# Altium schematic symbol library LED_Morph.SCHLIB: 12 symbols
Pins are listed as number, name and electrical type; pins without a type are passive.

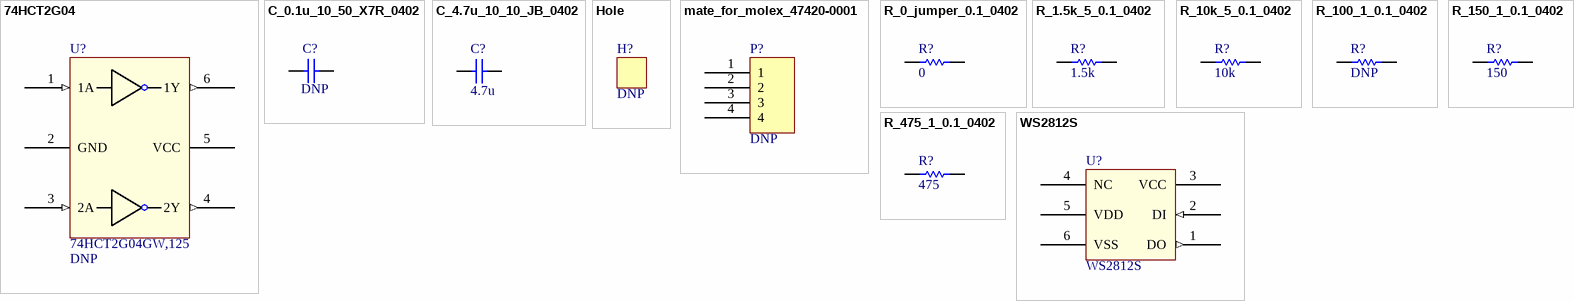
[diagram p0: symbols 74HCT2G04 to WS2812S]

## 74HCT2G04
designator U?, comment DNP  PN: 74HCT2G04GW,125
Dual inverter The 74HC2G04; 74HCT2G04 is a high-speed Si-gate CMOS device.; Vendor: NXP Semiconductors
footprint SOT65P210X110-6N (SOT23, 6-Leads, Body 2.00x2.10mm, Pitch 0.65mm, IPC Medium Density)
pins: 1 1A (in), 2 GND (power), 3 2A (in), 4 2Y (out), 5 VCC (power), 6 1Y (out)

## C_0.1u_10_50_X7R_0402
designator C?, comment DNP
CAP CER 0.1UF 50V 10% X7R 0402; Value: 0.1u; Vendor: Murata; PN: GRM155R71H104KE14D; Hello_PN: 225-00462; Size: 0402; Tolerance: 10%; Voltage: 50V; Temp: X7R
footprint CAP0402_SENSE_DVT (Chip Capacitor, 2-Leads)
pins: 1, 2

## C_4.7u_10_10_JB_0402
designator C?, comment 4.7u
CAP CER 4.7UF 10V 10% JB 0402; Vendor: Samsung; PN: CL05A475KP5NRNC; Hello_PN: 225-00461; Value: 4.7u; Size: 0402; Tolerance: 10%; Voltage: 10V; Temp: JB
footprint CAP0402_SENSE_DVT (Chip Capacitor, 2-Leads)
pins: 1, 2

## Hole
designator H?, comment DNP
general purpose hole
footprint HOLE_ROUND_0.6mm
footprint HOLE_ROUND_1.6mm
footprint HOLE_ROUND_1.7mm
footprint HOLE_ROUND_2.4mm
footprint HOLE_ROUND_3.1mm
footprint HOLE_ROUND_2.1mm
footprint HOLE_ROUND_1.8mm
footprint HOLE_ROUND_1.4mm

## mate_for_molex_47420-0001
designator P?, comment DNP
Molex 4-pin spring connector 1.8 mm working height
footprint mate_for_molex_47420-0001 (Molex 4-pin connector pads)
pins: 1, 2, 3, 4

## R_0_jumper_0.1_0402
designator R?, comment 0
RES 0.0 OHM 1/10W JUMP 0402 SMD; Vendor: Yageo; Tolerance: Jumper; Power: 0.1 W; PN: RC0402JR-070RL; Hello_PN: 220-00457; Model: *; Value: 0; Size: 0402
footprint RES0402_SENSE_DVT (Chip resistor 0402)
pins: 1, 2

## R_1.5k_5_0.1_0402
designator R?, comment 1.5k
RES 1.5K OHM 1/10W 5% 0402 SMD; Vendor: Yageo; Power: 0.1 W; PN: RC0402JR-071K5L; Hello_PN: 220-00459; Model: *; Value: 1.5k; Tolerance: 5 %; Size: 0402
footprint RES0402_SENSE_DVT (Chip resistor 0402)
pins: 1, 2

## R_10k_5_0.1_0402
designator R?, comment 10k
RES 10K OHM 1/10W 5% 0402 SMD; Vendor: Yageo; Power: 0.1 W; PN: RC0402JR-0710KL; Hello_PN: 220-00458; Model: *; Value: 10k; Tolerance: 5 %; Size: 0402
footprint RES0402_SENSE_DVT (Chip resistor 0402)
pins: 1, 2

## R_100_1_0.1_0402
designator R?, comment DNP
Chip Resistor; Value: 100; Vendor: Panasonic; Tolerance: 1 %; Power: 0.1 W; PN: ERJ-2RKF1000X; Model: *; Size: 0402
footprint RES0402_SENSE_DVT (Chip resistor 0402)
pins: 1, 2

## R_150_1_0.1_0402
designator R?, comment 150
RES 150 OHM 1/10W 1% 0402 SMD; Vendor: Yageo; Power: 0.1 W; PN: RC0402FR-07150RL; Hello_PN: 220-00460; Model: *; Value: 150; Tolerance: 1 %; Size: 0402
footprint RES0402_SENSE_DVT (Chip resistor 0402)
pins: 1, 2

## R_475_1_0.1_0402
designator R?, comment 475
RES 475 OHM 1/10W 1% 0402 SMD; Vendor: Yageo; Power: 0.1 W; PN: RC0402FR-07475RL; Hello_PN: 220-00456; Model: *; Value: 475; Tolerance: 1 %; Size: 0402
footprint RES0402 (Chip resistor 0402 high density)
footprint RES0402_SENSE_DVT (Chip resistor 0402)
pins: 1, 2

## WS2812S
designator U?
WS2812S Intelligent control LED integrated light source; PN: HC-WS2812S LED; Vendor: Worldsemi Co., Limited
footprint 6PIN_WS2812 (6-pin 5.4 x 5.4 x 1.5mm)
pins: 1 DO (out) "LED OUT", 2 DI (in) "LED IN", 3 VCC (power) "LED VCC", 4 NC, 5 VDD (power), 6 VSS (power)